# EAGLE library part TPS61165 (library dword1511-pmic-dcdc)
Boost LED driver
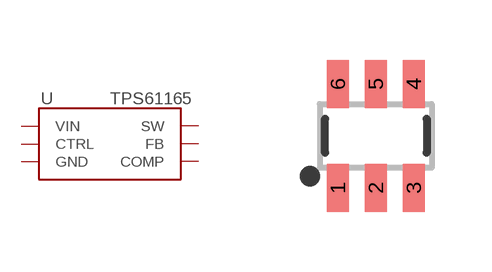
[diagram p2: symbol with the pads of SOT-23-6; footprint SOT-23-6]

Designator prefix U

## TPS61165DBV  [SOT-23-6]
1  VIN  pwr
2  CTRL  in
3  SW  out
4  GND  pwr
5  COMP  out
6  FB  in

## Footprint SOT-23-6 (pad centres in mm)
smd 0.55 x 1.2: 1 -0.95,-1.3; 2 0,-1.3; 3 0.95,-1.3; 4 0.95,1.3; 5 0,1.3; 6 -0.95,1.3